# Altium schematic symbol library SCH - RF - AMPLIFIER - TI CC1190.SCHLIB: 1 symbol
Pins are listed as number, name and electrical type; pins without a type are passive.

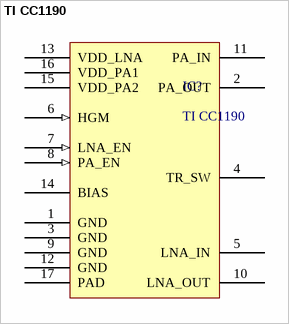
[diagram p0: symbol TI CC1190]

## TI CC1190
designator IC?
850-950MHz RF Front end
pins: 1 GND "Desc1", 2 PA_OUT "Desc1", 3 GND "Desc1", 4 TR_SW "Desc1", 5 LNA_IN "Desc1", 6 HGM (in) "Desc1", 7 LNA_EN (in) "Desc1", 8 PA_EN (in) "Desc1", 9 GND "Desc1", 10 LNA_OUT "Desc1", 11 PA_IN "Desc1", 12 GND "Desc1", 13 VDD_LNA "Desc1", 14 BIAS "Desc1", 15 VDD_PA2 "Desc1", 16 VDD_PA1 "Desc1", 17 PAD "Desc1"